# Altium schematic symbol library GenCryst.SchLib: 9 symbols
Pins are listed as number, name and electrical type; pins without a type are passive.

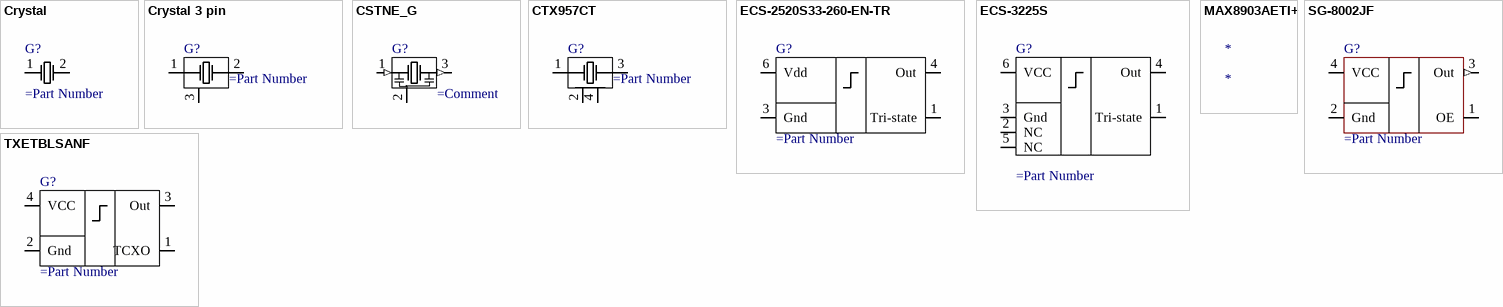
[diagram p0: symbols Crystal to TXETBLSANF]

## Crystal
designator G?
pins: 1, 2

## Crystal 3 pin
designator G?
pins: 1, 2, 3

## CSTNE_G
designator G?
pins: 1 (in), 2, 3 (out)

## CTX957CT
designator G?
pins: 1, 2, 3, 4

## ECS-2520S33-260-EN-TR
designator G?
pins: 1 Tri-state, 3 Gnd, 4 Out, 6 Vdd

## ECS-3225S
designator G?
pins: 1 Tri-state, 2 NC, 3 Gnd, 4 Out, 5 NC, 6 VCC

## MAX8903AETI+
designator *

## SG-8002JF
designator G?
pins: 1 OE, 2 Gnd (power), 3 Out (out), 4 VCC (power)

## TXETBLSANF
designator G?
pins: 1 TCXO, 2 Gnd, 3 Out, 4 VCC